# EAGLE library part FX019 (library cml-micro)
Quad-Amplifier Array Digitally Controlled
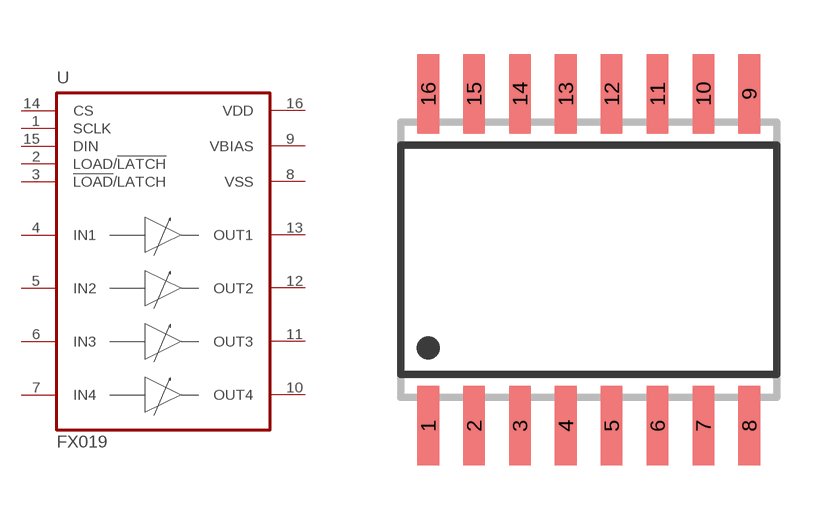
[diagram p6: symbol with the pads of SO16W; footprint SO16W]

Designator prefix U

## FX019DW  [SO16W]
1  SCLK  in
2  LOAD/!LATCH  in
3  !LOAD!/LATCH  in
4  IN1  in
5  IN2  in
6  IN3  in
7  IN4  in
8  VSS  pwr
9  VBIAS
10  OUT4  out
11  OUT3  out
12  OUT2  out
13  OUT1  out
14  CS  in
15  DIN  in
16  VDD  pwr

## Footprint SO16W (pad centres in mm)
SMALL OUTLINE INTEGRATED CIRCUIT wide body 7.5 mm/JEDEC MS-013AA
smd 0.6 x 2.2: 1 -4.445,-4.6; 2 -3.175,-4.6; 3 -1.905,-4.6; 4 -0.635,-4.6; 5 0.635,-4.6; 6 1.905,-4.6; 7 3.175,-4.6; 8 4.445,-4.6; 9 4.445,4.6; 10 3.175,4.6; 11 1.905,4.6; 12 0.635,4.6; 13 -0.635,4.6; 14 -1.905,4.6; 15 -3.175,4.6; 16 -4.445,4.6